# Altium schematic symbol library LD1117AS33.SchLib: 1 symbol
Pins are listed as number, name and electrical type; pins without a type are passive.

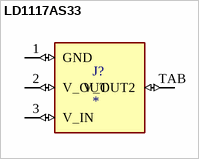
[diagram p0: symbol LD1117AS33]

## LD1117AS33
designator J?
MF: {'manufacturer': u'STMicroelectronics'}; MP: LD1117AS33; Package: None; Price: None; Value: *; Availability: Unavailable
footprint SOT223
pins: 1 GND (io), 2 V_OUT (io), 3 V_IN (io), TAB V_OUT2 (io)